# EAGLE library part 693071020811 (library WR-CRD)
WR-CRD SD Card Connectors Characteristics Available in two form factors: SD and MicroSD Available in three entry types: Push-Pull, Hinge and Push-Push SD 4.0 available in SD form factor for higher transfer speed Applications Single-board computers Surveillance systems Industrial data logging Consumer Electronics Drones <https://www.we-online.com/components/media/o32845v209%20Family_ConCRD_693071010811.jpg> Details see: www.we-online.com/components/products/WR-CRD_CARD_CONNECTORS_SD2 <www.we-online.com/catalog/WR-CRD_CARD_CONNECTORS_SD2/?utm_source=eagle_model&utm_medium=description_link&utm_campaign=eisos_eagle> Updated by Ella Wu 2020-04-15 2020(C) Wurth Elektronik
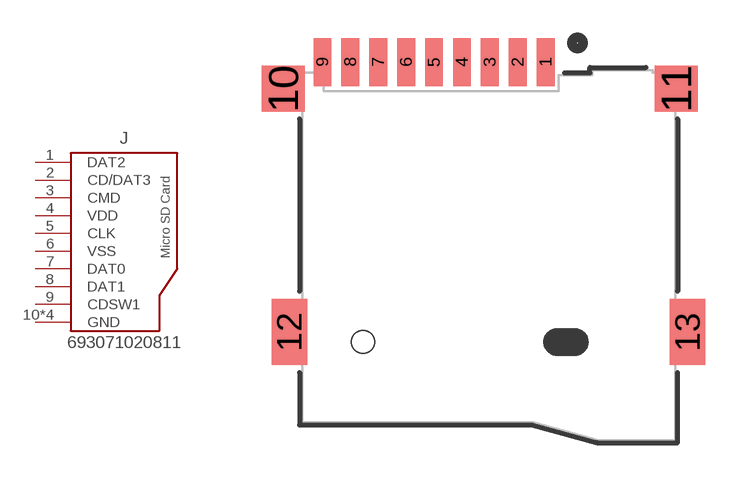
[diagram p19: symbol with the pads of 693071020811; footprint 693071020811]

Designator prefix J

## 693071020811 (DATASHEET-URL: https://www.we-online.com/redexpert/spec/693071020811?ae; DURABILITY: 10000 Mating cycles; GERDER: Socket; MOUNT: SMT; PART-NUMBER: 693071020811; PINS: 8pcs; SIZE: Micro SD; TYPE: Push & Push; VALUE: 693071020811)  [693071020811]
1  DAT2  pas
2  CD/DAT3  pas
3  CMD  pas
4  VDD  pas
5  CLK  pas
6  VSS  pas
7  DAT0  pas
8  DAT1  pas
9  CDSW1  pas
10  GND  pas
11  GND  pas
12  GND  pas
13  GND  pas

## Footprint 693071020811 (pad centres in mm)
WR-CRD Micro SD Card Connector Push & Push 8 pins
smd 0.7 x 1.9: 1 2.25,11.05; 2 1.15,11.05; 3 0.05,11.05; 4 -1.05,11.05; 5 -2.15,11.05; 6 -3.25,11.05; 7 -4.35,11.05; 8 -5.45,11.05; 9 -6.55,11.05
smd 1.7 x 1.8: 10 -8.1,10; 11 7.4,10
smd 1.4 x 2.6: 12 -7.85,0.4; 13 7.85,0.4
hole 0.9 at -4.95,0
hole 1 at 3.05,0